# Altium schematic symbol library HIDDEN_PWR_PIN.SchLib: 1 symbol
Pins are listed as number, name and electrical type; pins without a type are passive.

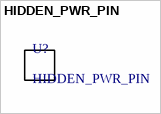
[diagram p0: symbol HIDDEN_PWR_PIN]

## HIDDEN_PWR_PIN
designator U?
Hidden power pin test
pins: 1 VCC (power) hidden, 2 GND (power) hidden